# EAGLE library part ADF4110 (library analog-devices)
PLL Frequency Synthesizer
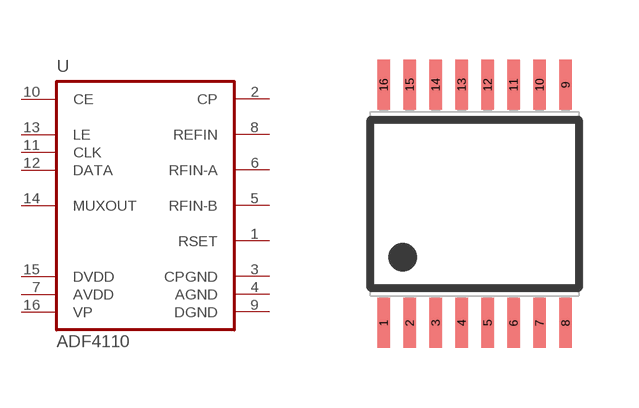
[diagram p52: symbol with the pads of TSSOP16; footprint TSSOP16]

Designator prefix U

## ADF4110BRU  [TSSOP16]
1  RSET  pas
2  CP  out
3  CPGND  pwr
4  AGND  pwr
5  RFIN-B  in
6  RFIN-A  in
7  AVDD  pwr
8  REFIN  in
9  DGND  pwr
10  CE  in
11  CLK  in
12  DATA  in
13  LE  in
14  MUXOUT  out
15  DVDD  pwr
16  VP  pwr

## Footprint TSSOP16 (pad centres in mm)
Thin Shrink Small Outline Plastic 16
smd 0.31 x 1.25: 1 -2.275,-2.98; 2 -1.625,-2.98; 3 -0.975,-2.98; 4 -0.325,-2.98; 5 0.325,-2.98; 6 0.975,-2.98; 7 1.625,-2.98; 8 2.275,-2.98; 9 2.275,2.98; 10 1.625,2.98; 11 0.975,2.98; 12 0.325,2.98; 13 -0.325,2.98; 14 -0.975,2.98; 15 -1.625,2.98; 16 -2.275,2.98